# Altium footprint library Package_TO_SOT_SMD.PcbLib: 132 footprints (part 7 of 9)
Each footprint in its own frame and in the unit in brackets; x right, y up, seen from the top. Pads: shape width x height; smd on the part's side, far side on the other; paste and mask are expansions set on the pad; w line width, h text height; cw(c..) or ccw(c..) is an arc to the next point about the centre after c.
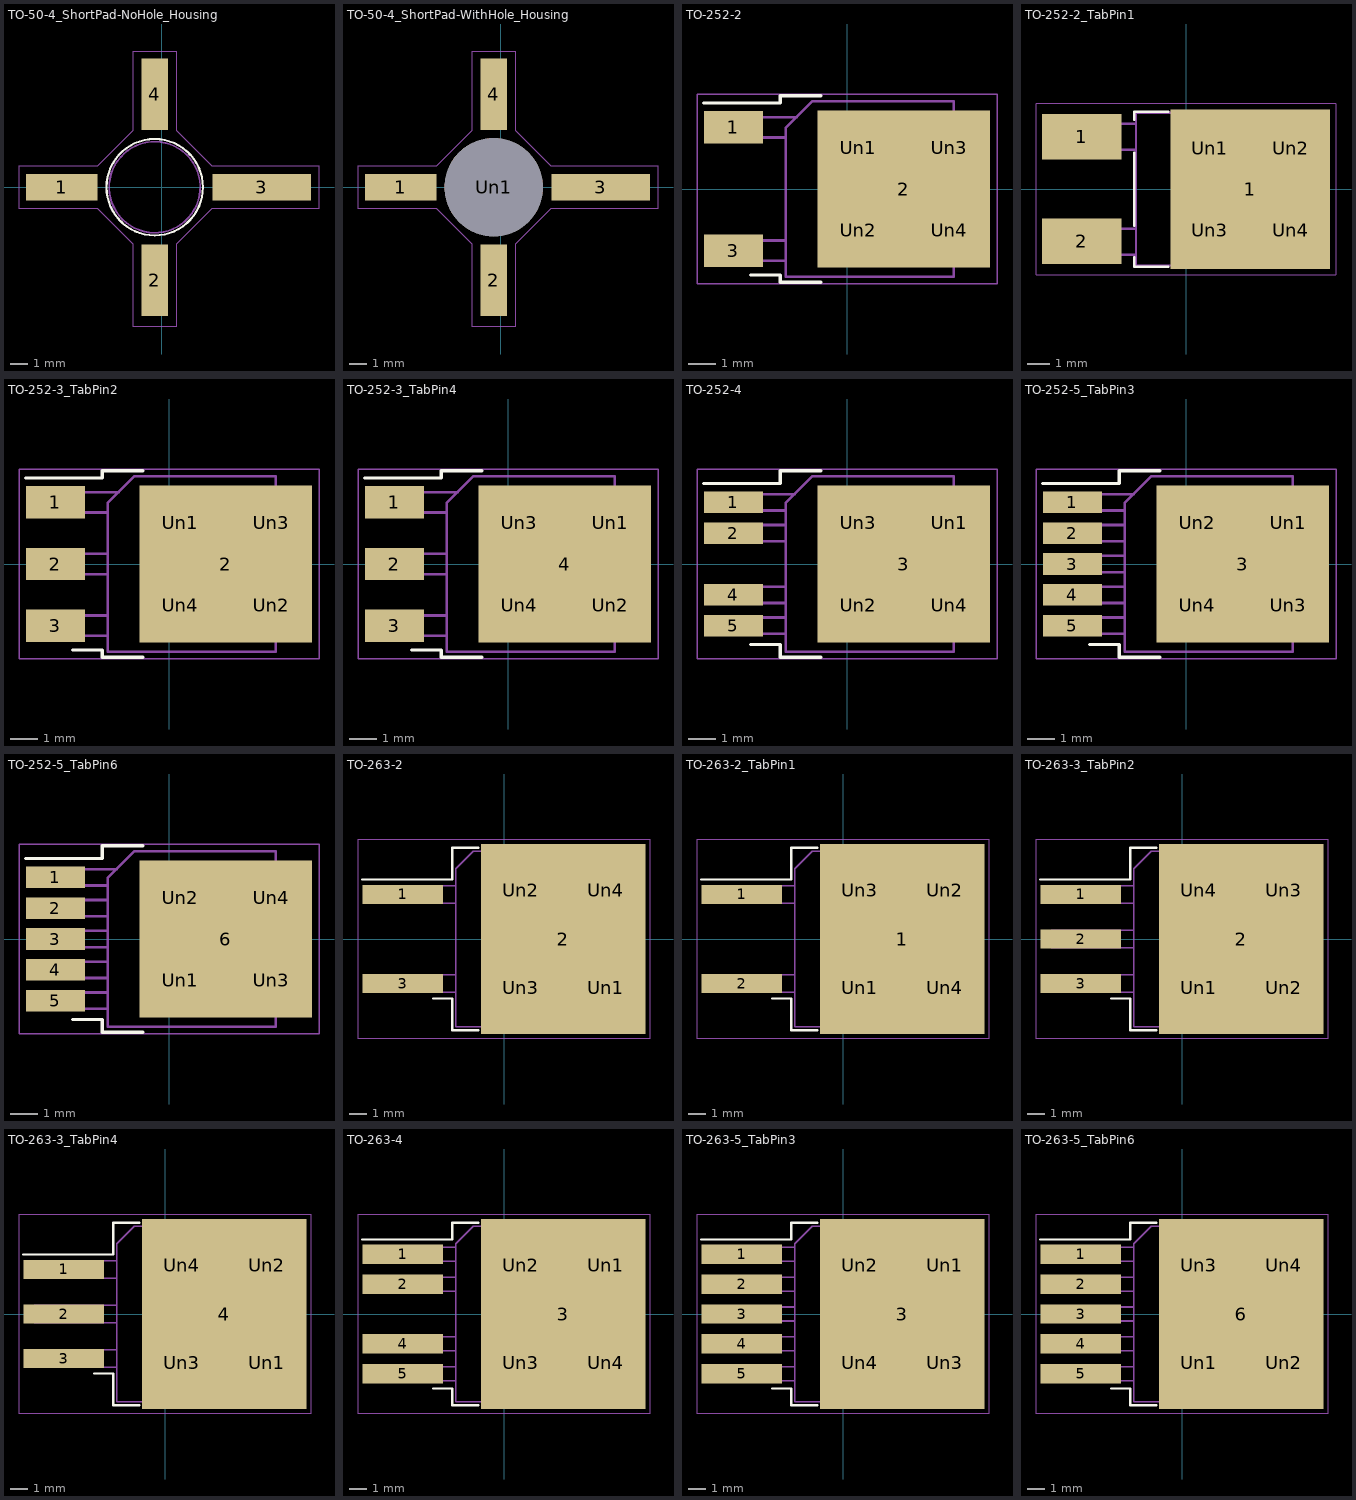
[diagram p6: the footprints below, top view; thin cyan lines are the x and y axes]

## TO-50-4_ShortPad-NoHole_Housing [mm]
pads (4):
  rect 4x1.5 smd: 1(-5.6,0)
  rect 1.5x4 smd: 2(-0.4,-5.2) 4(-0.4,5.2)
  rect 5.5x1.5 smd: 3(5.6,0)
F.SilkS:
  circle w0.12: c-0.4,0 r2.7
F.CrtYd:
  lines w0.05: -8,-1.2 -3.6,-1.2 -1.6,-3.2 -1.6,-7.8 0.8,-7.8 0.8,-3.2 2.8,-1.2 8.8,-1.2 8.8,1.2 2.8,1.2 0.8,3.2 0.8,7.6 -1.6,7.6 -1.6,3.2 -3.6,1.2 -8,1.2 -8,-1.2
F.Fab:
  circle w0.1: c-0.4,0 r2.55
  text "'.Designator'" at -3.672,-0.84 h1

## TO-50-4_ShortPad-WithHole_Housing [mm]
pads (5):
  rect 4x1.5 smd: 1(-5.6,0)
  rect 1.5x4 smd: 2(-0.4,-5.2) 4(-0.4,5.2)
  rect 5.5x1.5 smd: 3(5.6,0)
  round 5.5 hole 5.5: Un1(-0.4,0)
F.CrtYd:
  lines w0.05: -8,-1.2 -3.6,-1.2 -1.6,-3.2 -1.6,-7.8 0.8,-7.8 0.8,-3.2 2.8,-1.2 8.8,-1.2 8.8,1.2 2.8,1.2 0.8,3.2 0.8,7.6 -1.6,7.6 -1.6,3.2 -3.6,1.2 -8,1.2 -8,-1.2
F.Fab:
  circle w0.1: c-0.4,0 r2.55
  text "'.Designator'" at -3.672,-0.84 h1

## TO-252-2 [mm]
pads (7):
  rect 2.2x1.2 smd: 1(-4.2,2.28) 3(-4.2,-2.28)
  rect 6.4x5.8 smd: 2(2.1,0)
  rect 3.05x2.75 on Top Paste: Un1(0.425,1.525) Un2(0.425,-1.525) Un3(3.775,1.525) Un4(3.775,-1.525)
F.SilkS:
  lines w0.12: -5.3,3.18 -2.47,3.18 -2.47,3.45 -0.97,3.45 ; -3.57,-3.18 -2.47,-3.18 -2.47,-3.45 -0.97,-3.45
F.CrtYd:
  lines w0.05: -5.55,-3.5 5.55,-3.5 5.55,3.5 -5.55,3.5 -5.55,-3.5
F.Fab:
  lines w0.1: -2.27,-2.655 -4.97,-2.655 -4.97,-1.905 -2.27,-1.905 ; -2.27,1.905 -4.97,1.905 -4.97,2.655 -1.865,2.655 ; 3.95,-2.7 4.95,-2.7 4.95,2.7 3.95,2.7 ; -2.27,-3.25 3.95,-3.25 3.95,3.25 -1.27,3.25 -2.27,2.25 -2.27,-3.25
  text "'.Designator'" at -4.047,-0.84 h1

## TO-252-2_TabPin1 [mm]
pads (7):
  rect 3.5x2 smd: 1(-4.575,2.3) 2(-4.575,-2.28)
  rect 7x7 smd: 1(2.825,0)
  rect 3.3x3.3 on Top Paste: Un1(1.05,1.8) Un2(4.6,1.8) Un3(1.05,-1.8) Un4(4.6,-1.8)
F.SilkS:
  lines w0.12: -2.275,-3 -2.275,-3.4 -0.775,-3.4 ; -2.275,-1.6 -2.275,1.6 ; -2.275,3.05 -2.275,3.4 -0.775,3.4
F.CrtYd:
  lines w0.05: -6.58,-3.75 6.58,-3.75 6.58,3.75 -6.58,3.75 -6.58,-3.75
F.Fab:
  lines w0.1: -2.195,-2.87 -5.105,-2.87 -5.105,-1.73 -2.195,-1.73 ; -2.195,1.73 -5.105,1.73 -5.105,2.87 -2.195,2.87 ; 3.795,-2.71 5.005,-2.71 5.005,2.71 3.805,2.71 ; -2.195,-3.35 -2.195,3.35 3.795,3.35 3.795,-3.35 -2.195,-3.35
  text "'.Designator'" at -4.097,-0.84 h1

## TO-252-3_TabPin2 [mm]
pads (8):
  rect 2.2x1.2 smd: 1(-4.2,2.28) 2(-4.2,0) 3(-4.2,-2.28)
  rect 6.4x5.8 smd: 2(2.1,0)
  rect 3.05x2.75 on Top Paste: Un1(0.425,1.525) Un2(3.775,-1.525) Un3(3.775,1.525) Un4(0.425,-1.525)
F.SilkS:
  lines w0.12: -5.3,3.18 -2.47,3.18 -2.47,3.45 -0.97,3.45 ; -3.57,-3.18 -2.47,-3.18 -2.47,-3.45 -0.97,-3.45
F.CrtYd:
  lines w0.05: -5.55,-3.5 5.55,-3.5 5.55,3.5 -5.55,3.5 -5.55,-3.5
F.Fab:
  lines w0.1: -2.27,-2.655 -4.97,-2.655 -4.97,-1.905 -2.27,-1.905 ; -2.27,-0.375 -4.97,-0.375 -4.97,0.375 -2.27,0.375 ; -2.27,1.905 -4.97,1.905 -4.97,2.655 -1.865,2.655 ; 3.95,-2.7 4.95,-2.7 4.95,2.7 3.95,2.7 ; -2.27,-3.25 3.95,-3.25 3.95,3.25 -1.27,3.25 -2.27,2.25 -2.27,-3.25
  text "'.Designator'" at -4.047,-0.84 h1

## TO-252-3_TabPin4 [mm]
pads (8):
  rect 2.2x1.2 smd: 1(-4.2,2.28) 2(-4.2,0) 3(-4.2,-2.28)
  rect 6.4x5.8 smd: 4(2.1,0)
  rect 3.05x2.75 on Top Paste: Un1(3.775,1.525) Un2(3.775,-1.525) Un3(0.425,1.525) Un4(0.425,-1.525)
F.SilkS:
  lines w0.12: -5.3,3.18 -2.47,3.18 -2.47,3.45 -0.97,3.45 ; -3.57,-3.18 -2.47,-3.18 -2.47,-3.45 -0.97,-3.45
F.CrtYd:
  lines w0.05: -5.55,-3.5 -5.55,3.5 5.55,3.5 5.55,-3.5 -5.55,-3.5
F.Fab:
  lines w0.1: -2.27,-2.655 -4.97,-2.655 -4.97,-1.905 -2.27,-1.905 ; -2.27,-0.375 -4.97,-0.375 -4.97,0.375 -2.27,0.375 ; -2.27,1.905 -4.97,1.905 -4.97,2.655 -1.865,2.655 ; 3.95,-2.7 4.95,-2.7 4.95,2.7 3.95,2.7 ; -2.27,-3.25 3.95,-3.25 3.95,3.25 -1.27,3.25 -2.27,2.25 -2.27,-3.25
  text "'.Designator'" at -4.047,-0.84 h1

## TO-252-4 [mm]
pads (9):
  rect 2.2x0.8 smd: 1(-4.2,2.28) 2(-4.2,1.14) 4(-4.2,-1.14) 5(-4.2,-2.28)
  rect 6.4x5.8 smd: 3(2.1,0)
  rect 3.05x2.75 on Top Paste: Un1(3.775,1.525) Un2(0.425,-1.525) Un3(0.425,1.525) Un4(3.775,-1.525)
F.SilkS:
  lines w0.12: -5.3,2.98 -2.47,2.98 -2.47,3.45 -0.97,3.45 ; -3.57,-2.98 -2.47,-2.98 -2.47,-3.45 -0.97,-3.45
F.CrtYd:
  lines w0.05: -5.55,-3.5 5.55,-3.5 5.55,3.5 -5.55,3.5 -5.55,-3.5
F.Fab:
  lines w0.1: -2.27,-2.58 -4.97,-2.58 -4.97,-1.98 -2.27,-1.98 ; -2.27,-1.44 -4.97,-1.44 -4.97,-0.84 -2.27,-0.84 ; -2.27,0.84 -4.97,0.84 -4.97,1.44 -2.27,1.44 ; -2.27,1.98 -4.97,1.98 -4.97,2.58 -1.94,2.58 ; 3.95,-2.7 4.95,-2.7 4.95,2.7 3.95,2.7 ; -2.27,-3.25 3.95,-3.25 3.95,3.25 -1.27,3.25 -2.27,2.25 -2.27,-3.25
  text "'.Designator'" at -4.047,-0.84 h1

## TO-252-5_TabPin3 [mm]
pads (10):
  rect 2.2x0.8 smd: 1(-4.2,2.28) 2(-4.2,1.14) 3(-4.2,0) 4(-4.2,-1.14) 5(-4.2,-2.28)
  rect 6.4x5.8 smd: 3(2.1,0)
  rect 3.05x2.75 on Top Paste: Un1(3.775,1.525) Un2(0.425,1.525) Un3(3.775,-1.525) Un4(0.425,-1.525)
F.SilkS:
  lines w0.12: -5.3,2.98 -2.47,2.98 -2.47,3.45 -0.97,3.45 ; -3.57,-2.98 -2.47,-2.98 -2.47,-3.45 -0.97,-3.45
F.CrtYd:
  lines w0.05: -5.55,-3.5 -5.55,3.5 5.55,3.5 5.55,-3.5 -5.55,-3.5
F.Fab:
  lines w0.1: -2.27,-2.58 -4.97,-2.58 -4.97,-1.98 -2.27,-1.98 ; -2.27,-1.44 -4.97,-1.44 -4.97,-0.84 -2.27,-0.84 ; -2.27,-0.3 -4.97,-0.3 -4.97,0.3 -2.27,0.3 ; -2.27,0.84 -4.97,0.84 -4.97,1.44 -2.27,1.44 ; -2.27,1.98 -4.97,1.98 -4.97,2.58 -1.94,2.58 ; 3.95,-2.7 4.95,-2.7 4.95,2.7 3.95,2.7 ; -2.27,-3.25 3.95,-3.25 3.95,3.25 -1.27,3.25 -2.27,2.25 -2.27,-3.25
  text "'.Designator'" at -4.047,-0.84 h1

## TO-252-5_TabPin6 [mm]
pads (10):
  rect 2.2x0.8 smd: 1(-4.2,2.28) 2(-4.2,1.14) 3(-4.2,0) 4(-4.2,-1.14) 5(-4.2,-2.28)
  rect 6.4x5.8 smd: 6(2.1,0)
  rect 3.05x2.75 on Top Paste: Un1(0.425,-1.525) Un2(0.425,1.525) Un3(3.775,-1.525) Un4(3.775,1.525)
F.SilkS:
  lines w0.12: -5.3,2.98 -2.47,2.98 -2.47,3.45 -0.97,3.45 ; -3.57,-2.98 -2.47,-2.98 -2.47,-3.45 -0.97,-3.45
F.CrtYd:
  lines w0.05: -5.55,-3.5 5.55,-3.5 5.55,3.5 -5.55,3.5 -5.55,-3.5
F.Fab:
  lines w0.1: -2.27,-2.58 -4.97,-2.58 -4.97,-1.98 -2.27,-1.98 ; -2.27,-1.44 -4.97,-1.44 -4.97,-0.84 -2.27,-0.84 ; -2.27,-0.3 -4.97,-0.3 -4.97,0.3 -2.27,0.3 ; -2.27,0.84 -4.97,0.84 -4.97,1.44 -2.27,1.44 ; -2.27,1.98 -4.97,1.98 -4.97,2.58 -1.94,2.58 ; 3.95,-2.7 4.95,-2.7 4.95,2.7 3.95,2.7 ; -2.27,-3.25 3.95,-3.25 3.95,3.25 -1.27,3.25 -2.27,2.25 -2.27,-3.25
  text "'.Designator'" at -4.047,-0.84 h1

## TO-263-2 [mm]
pads (7):
  rect 4.6x1.1 smd: 1(-5.775,2.54) 3(-5.775,-2.54)
  rect 9.4x10.8 smd: 2(3.375,0)
  rect 4.55x5.25 on Top Paste: Un1(5.8,-2.775) Un2(0.95,2.775) Un3(0.95,-2.775) Un4(5.8,2.775)
F.SilkS:
  lines w0.12: -8.075,3.39 -2.95,3.39 -2.95,5.2 -1.45,5.2 ; -4.05,-3.39 -2.95,-3.39 -2.95,-5.2 -1.45,-5.2
F.CrtYd:
  lines w0.05: -8.32,-5.65 8.32,-5.65 8.32,5.65 -8.32,5.65 -8.32,-5.65
F.Fab:
  lines w0.1: -2.75,-3.04 -7.45,-3.04 -7.45,-2.04 -2.75,-2.04 ; -2.75,2.04 -7.45,2.04 -7.45,3.04 -2.75,3.04 ; 6.5,-5 7.5,-5 7.5,5 6.5,5 ; 6.5,-5 -2.75,-5 -2.75,4 -1.75,5 6.5,5 ; 6.5,-5 6.5,5
  text "'.Designator'" at -4.047,-0.84 h1

## TO-263-2_TabPin1 [mm]
pads (7):
  rect 4.6x1.1 smd: 1(-5.775,2.54) 2(-5.775,-2.54)
  rect 9.4x10.8 smd: 1(3.375,0)
  rect 4.55x5.25 on Top Paste: Un1(0.95,-2.775) Un2(5.8,2.775) Un3(0.95,2.775) Un4(5.8,-2.775)
F.SilkS:
  lines w0.12: -8.075,3.39 -2.95,3.39 -2.95,5.2 -1.45,5.2 ; -4.05,-3.39 -2.95,-3.39 -2.95,-5.2 -1.45,-5.2
F.CrtYd:
  lines w0.05: -8.32,-5.65 8.32,-5.65 8.32,5.65 -8.32,5.65 -8.32,-5.65
F.Fab:
  lines w0.1: -2.75,-3.04 -7.45,-3.04 -7.45,-2.04 -2.75,-2.04 ; -2.75,2.04 -7.45,2.04 -7.45,3.04 -2.75,3.04 ; 6.5,-5 6.5,5 ; 6.5,-5 -2.75,-5 -2.75,4 -1.75,5 6.5,5 ; 6.5,-5 7.5,-5 7.5,5 6.5,5
  text "'.Designator'" at -4.047,-0.84 h1

## TO-263-3_TabPin2 [mm]
pads (8):
  rect 4.6x1.1 smd: 1(-5.775,2.54) 2(-5.775,0) 3(-5.775,-2.54)
  rect 9.4x10.8 smd: 2(3.375,0)
  rect 4.55x5.25 on Top Paste: Un1(0.95,-2.775) Un2(5.8,-2.775) Un3(5.8,2.775) Un4(0.95,2.775)
F.SilkS:
  lines w0.12: -8.075,3.39 -2.95,3.39 -2.95,5.2 -1.45,5.2 ; -4.05,-3.39 -2.95,-3.39 -2.95,-5.2 -1.45,-5.2
F.CrtYd:
  lines w0.05: -8.32,-5.65 -8.32,5.65 8.32,5.65 8.32,-5.65 -8.32,-5.65
F.Fab:
  lines w0.1: -2.75,-3.04 -7.45,-3.04 -7.45,-2.04 -2.75,-2.04 ; -2.75,-0.5 -7.45,-0.5 -7.45,0.5 -2.75,0.5 ; -2.75,2.04 -7.45,2.04 -7.45,3.04 -2.75,3.04 ; 6.5,-5 7.5,-5 7.5,5 6.5,5 ; 6.5,-5 6.5,5 ; 6.5,-5 -2.75,-5 -2.75,4 -1.75,5 6.5,5
  text "'.Designator'" at -4.047,-0.84 h1

## TO-263-3_TabPin4 [mm]
pads (8):
  rect 4.6x1.1 smd: 1(-5.775,2.54) 2(-5.775,0) 3(-5.775,-2.54)
  rect 9.4x10.8 smd: 4(3.375,0)
  rect 4.55x5.25 on Top Paste: Un1(5.8,-2.775) Un2(5.8,2.775) Un3(0.95,-2.775) Un4(0.95,2.775)
F.SilkS:
  lines w0.12: -8.075,3.39 -2.95,3.39 -2.95,5.2 -1.45,5.2 ; -4.05,-3.39 -2.95,-3.39 -2.95,-5.2 -1.45,-5.2
F.CrtYd:
  lines w0.05: -8.32,-5.65 -8.32,5.65 8.32,5.65 8.32,-5.65 -8.32,-5.65
F.Fab:
  lines w0.1: -2.75,-3.04 -7.45,-3.04 -7.45,-2.04 -2.75,-2.04 ; -2.75,-0.5 -7.45,-0.5 -7.45,0.5 -2.75,0.5 ; -2.75,2.04 -7.45,2.04 -7.45,3.04 -2.75,3.04 ; 6.5,-5 7.5,-5 7.5,5 6.5,5 ; 6.5,-5 6.5,5 ; 6.5,-5 -2.75,-5 -2.75,4 -1.75,5 6.5,5
  text "'.Designator'" at -4.047,-0.84 h1

## TO-263-4 [mm]
pads (9):
  rect 4.6x1.1 smd: 1(-5.775,3.4) 2(-5.775,1.7) 4(-5.775,-1.7) 5(-5.775,-3.4)
  rect 9.4x10.8 smd: 3(3.375,0)
  rect 4.55x5.25 on Top Paste: Un1(5.8,2.775) Un2(0.95,2.775) Un3(0.95,-2.775) Un4(5.8,-2.775)
F.SilkS:
  lines w0.12: -8.075,4.25 -2.95,4.25 -2.95,5.2 -1.45,5.2 ; -4.05,-4.25 -2.95,-4.25 -2.95,-5.2 -1.45,-5.2
F.CrtYd:
  lines w0.05: -8.32,-5.65 -8.32,5.65 8.32,5.65 8.32,-5.65 -8.32,-5.65
F.Fab:
  lines w0.1: -2.75,-3.8 -7.45,-3.8 -7.45,-3 -2.75,-3 ; -2.75,-2.1 -7.45,-2.1 -7.45,-1.3 -2.75,-1.3 ; -2.75,1.3 -7.45,1.3 -7.45,2.1 -2.75,2.1 ; -2.75,3 -7.45,3 -7.45,3.8 -2.75,3.8 ; 6.5,-5 6.5,5 ; 6.5,-5 7.5,-5 7.5,5 6.5,5 ; 6.5,-5 -2.75,-5 -2.75,4 -1.75,5 6.5,5
  text "'.Designator'" at -4.047,-0.84 h1

## TO-263-5_TabPin3 [mm]
pads (10):
  rect 4.6x1.1 smd: 1(-5.775,3.4) 2(-5.775,1.7) 3(-5.775,0) 4(-5.775,-1.7) 5(-5.775,-3.4)
  rect 9.4x10.8 smd: 3(3.375,0)
  rect 4.55x5.25 on Top Paste: Un1(5.8,2.775) Un2(0.95,2.775) Un3(5.8,-2.775) Un4(0.95,-2.775)
F.SilkS:
  lines w0.12: -8.075,4.25 -2.95,4.25 -2.95,5.2 -1.45,5.2 ; -4.05,-4.25 -2.95,-4.25 -2.95,-5.2 -1.45,-5.2
F.CrtYd:
  lines w0.05: -8.32,-5.65 8.32,-5.65 8.32,5.65 -8.32,5.65 -8.32,-5.65
F.Fab:
  lines w0.1: -2.75,-3.8 -7.45,-3.8 -7.45,-3 -2.75,-3 ; -2.75,-2.1 -7.45,-2.1 -7.45,-1.3 -2.75,-1.3 ; -2.75,-0.4 -7.45,-0.4 -7.45,0.4 -2.75,0.4 ; -2.75,1.3 -7.45,1.3 -7.45,2.1 -2.75,2.1 ; -2.75,3 -7.45,3 -7.45,3.8 -2.75,3.8 ; 6.5,-5 7.5,-5 7.5,5 6.5,5 ; 6.5,-5 6.5,5 ; 6.5,-5 -2.75,-5 -2.75,4 -1.75,5 6.5,5
  text "'.Designator'" at -4.047,-0.84 h1

## TO-263-5_TabPin6 [mm]
pads (10):
  rect 4.6x1.1 smd: 1(-5.775,3.4) 2(-5.775,1.7) 3(-5.775,0) 4(-5.775,-1.7) 5(-5.775,-3.4)
  rect 9.4x10.8 smd: 6(3.375,0)
  rect 4.55x5.25 on Top Paste: Un1(0.95,-2.775) Un2(5.8,-2.775) Un3(0.95,2.775) Un4(5.8,2.775)
F.SilkS:
  lines w0.12: -8.075,4.25 -2.95,4.25 -2.95,5.2 -1.45,5.2 ; -4.05,-4.25 -2.95,-4.25 -2.95,-5.2 -1.45,-5.2
F.CrtYd:
  lines w0.05: -8.32,-5.65 -8.32,5.65 8.32,5.65 8.32,-5.65 -8.32,-5.65
F.Fab:
  lines w0.1: -2.75,-3.8 -7.45,-3.8 -7.45,-3 -2.75,-3 ; -2.75,-2.1 -7.45,-2.1 -7.45,-1.3 -2.75,-1.3 ; -2.75,-0.4 -7.45,-0.4 -7.45,0.4 -2.75,0.4 ; -2.75,1.3 -7.45,1.3 -7.45,2.1 -2.75,2.1 ; -2.75,3 -7.45,3 -7.45,3.8 -2.75,3.8 ; 6.5,-5 6.5,5 ; 6.5,-5 7.5,-5 7.5,5 6.5,5 ; 6.5,-5 -2.75,-5 -2.75,4 -1.75,5 6.5,5
  text "'.Designator'" at -4.047,-0.84 h1